# Altium footprint library Manu.PcbLib: 82 footprints (part 6 of 6)
Each footprint in its own frame and in the unit in brackets; x right, y up, seen from the top. Pads: shape width x height; smd on the part's side, far side on the other; paste and mask are expansions set on the pad; w line width, h text height; cw(c..) or ccw(c..) is an arc to the next point about the centre after c.
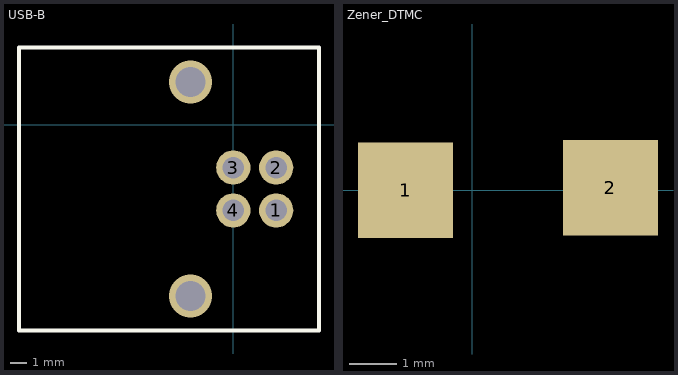
[diagram p5: the footprints below, top view; thin cyan lines are the x and y axes]

## USB-B [mil]
pads (4):
  round 80 hole 50: 1(100,-200) 2(100,-100) 3(0,-100) 4(0,-200)
via -100,100 diameter 100 hole 70
via -100,-400 diameter 100 hole 70
Top Overlay:
  lines w10: -500,-480 -500,180 200,180 200,-480 -500,-480

## Zener_DTMC [mm] "Zener"
height 2.54
pads (2):
  rect 2x2 smd: 1(-1.4,0) 2(2.9,0.05)